# Altium footprint library Capacitors_TH.PcbLib: 1 footprints
Each footprint in its own frame and in the unit in brackets; x right, y up, seen from the top. Pads: shape width x height; smd on the part's side, far side on the other; paste and mask are expansions set on the pad; w line width, h text height; cw(c..) or ccw(c..) is an arc to the next point about the centre after c.
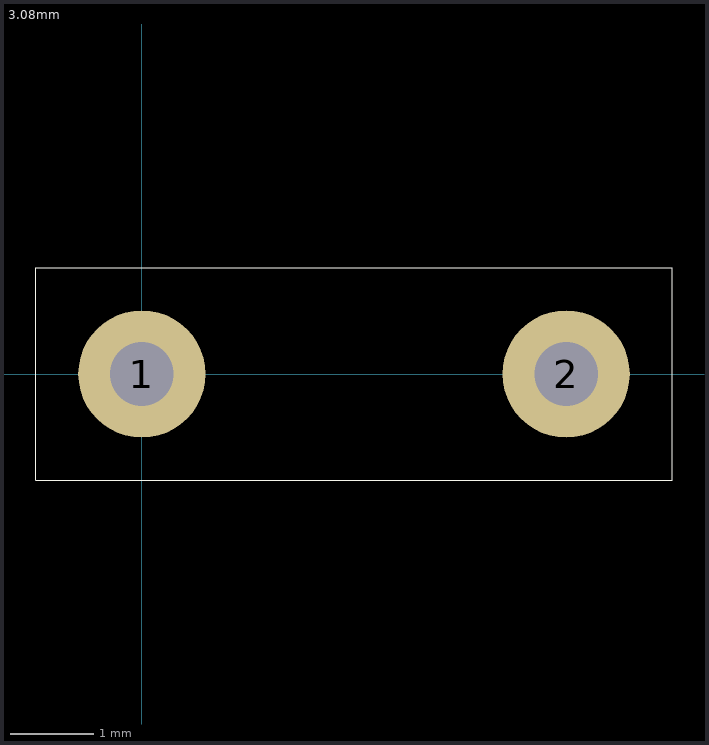
[diagram p0: the footprint, top view; thin cyan lines are the x and y axes]

## 3.08mm [mil]
pads (2):
  round 60 hole 30: 1(0,0) 2(200,0)
Top Overlay:
  lines w0.51: -50,-50 -50,50 250,50 250,-50 -50,-50
3D body "CK06_KEM.step": height 300, standoff -180.98, extent -49.37,-49.76 250.63,50.24